# EAGLE library part ATSAMD21E* (library IC_Embedded)
32-bit ARM-Based Microcontrollers Datasheet <http://ww1.microchip.com/downloads/en/devicedoc/40001884a.pdf> Note:For this part User needs to add thermal via in thermal pad in VQFN package while designing a board.
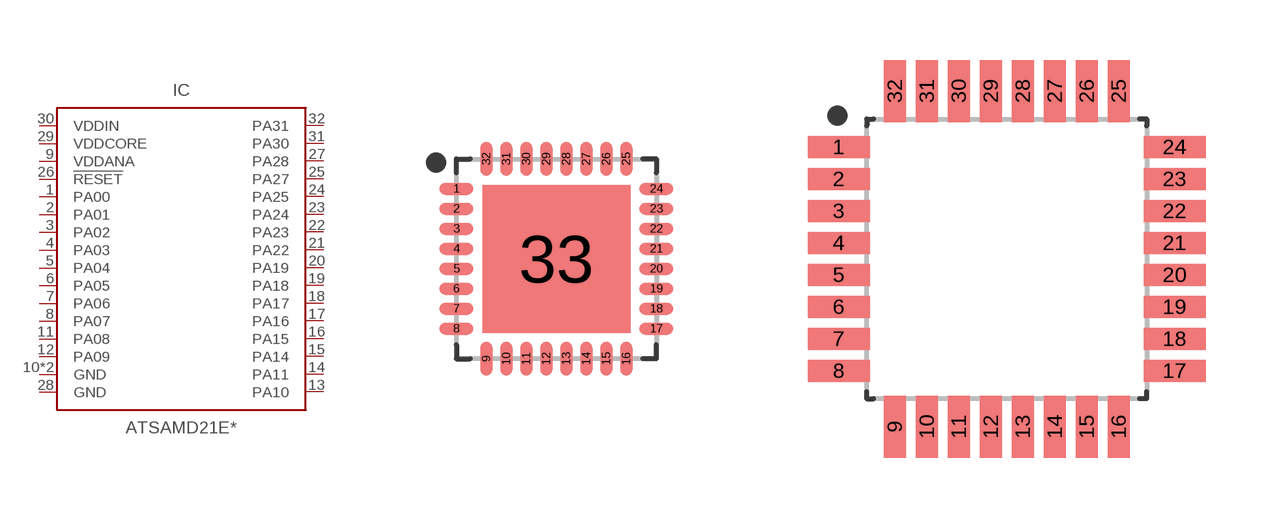
[diagram p32: symbol with the pads of QFN50P500X500X100-33T370; footprints QFN50P500X500X100-33T370, QFP80P900X900X120-32]

Designator prefix IC

## ATSAMD21E_VQFN (CATEGORY: IC_Embedded; CORE: Cortex-M0+ CPU; DESCRIPTION: Microchip's Atmel SMART™ SAM D21 is a series of low-power microcontrollers using the 32-bit ARM® Cortex®-M0+ processor; MANUFACTURER: Microchip Technology; MPN: ATSAMD21E; OPERATING_TEMP: Variable; PACKAGE: VQFN-32; PART_STATUS: Active; ROHS_COMPLIANT: COMPLIANT; SERIES: SAM D21E; SUB-CATEGORY: Microcontroller; TYPE: 32 bit Microcontroller; VALUE: ATSAMD21E)  [QFN50P500X500X100-33T370]
1  PA00  out
2  PA01  out
3  PA02
4  PA03
5  PA04
6  PA05
7  PA06
8  PA07
9  VDDANA  pwr
10  GND  pwr
11  PA08
12  PA09
13  PA10
14  PA11
15  PA14  out
16  PA15  out
17  PA16
18  PA17
19  PA18
20  PA19
21  PA22
22  PA23
23  PA24
24  PA25
25  PA27
26  !RESET  in
27  PA28
28  GND  pwr
29  VDDCORE  pwr
30  VDDIN  pwr
31  PA30
32  PA31
33  GND  pwr

## ATSAMD21E_TQFP (CATEGORY: IC_Embedded; CORE: ARM Cortex M0+; DESCRIPTION: Microchip's Atmel SMART™ SAM D21 is a series of low-power microcontrollers using the 32-bit ARM® Cortex®-M0+ processor; MANUFACTURER: Microchip Technology; MPN: ATSAMD21E; OPERATING_TEMP: variable; PACKAGE: TQFP-32; PART_STATUS: Active; ROHS_COMPLIANT: COMPLIANT; SERIES: SAM D21E; SUB-CATEGORY: Microcontroller; TYPE: 32 bit Microcontroller; VALUE: ATSAMD21E)  [QFP80P900X900X120-32]
1  PA00  out
2  PA01  out
3  PA02
4  PA03
5  PA04
6  PA05
7  PA06
8  PA07
9  VDDANA  pwr
10  GND  pwr
11  PA08
12  PA09
13  PA10
14  PA11
15  PA14  out
16  PA15  out
17  PA16
18  PA17
19  PA18
20  PA19
21  PA22
22  PA23
23  PA24
24  PA25
25  PA27
26  !RESET  in
27  PA28
28  GND  pwr
29  VDDCORE  pwr
30  VDDIN  pwr
31  PA30
32  PA31

## Footprint QFN50P500X500X100-33T370 (pad centres in mm)
32-QFN, 0.50 mm pitch, 5.00 X 5.00 X 1.00 mm body, 3.70 X 3.70 mm thermal pad 32-pin QFN package with 0.50 mm pitch with body size 5.00 X 5.00 X 1.00 mm and thermal pad size 3.70 X 3.70 mm
smd 0.85 x 0.3: 1 -2.5,1.75; 2 -2.5,1.25; 3 -2.5,0.75; 4 -2.5,0.25; 5 -2.5,-0.25; 6 -2.5,-0.75; 7 -2.5,-1.25; 8 -2.5,-1.75; 17 2.5,-1.75; 18 2.5,-1.25; 19 2.5,-0.75; 20 2.5,-0.25; 21 2.5,0.25; 22 2.5,0.75; 23 2.5,1.25; 24 2.5,1.75
smd 0.3 x 0.85: 9 -1.75,-2.5; 10 -1.25,-2.5; 11 -0.75,-2.5; 12 -0.25,-2.5; 13 0.25,-2.5; 14 0.75,-2.5; 15 1.25,-2.5; 16 1.75,-2.5; 25 1.75,2.5; 26 1.25,2.5; 27 0.75,2.5; 28 0.25,2.5; 29 -0.25,2.5; 30 -0.75,2.5; 31 -1.25,2.5; 32 -1.75,2.5
smd 3.7 x 3.7: 33 0,0

## Footprint QFP80P900X900X120-32 (pad centres in mm)
32-QFP, 0.80 mm pitch, 9.00 mm span, 7.00 X 7.00 X 1.20 mm body 32-pin QFP package with 0.80 mm pitch, 9.00 mm lead span1 X 9.00 mm lead span2 with body size 7.00 X 7.00 X 1.20 mm
smd 1.55 x 0.55: 1 -4.2,2.8; 2 -4.2,2; 3 -4.2,1.2; 4 -4.2,0.4; 5 -4.2,-0.4; 6 -4.2,-1.2; 7 -4.2,-2; 8 -4.2,-2.8; 17 4.2,-2.8; 18 4.2,-2; 19 4.2,-1.2; 20 4.2,-0.4; 21 4.2,0.4; 22 4.2,1.2; 23 4.2,2; 24 4.2,2.8
smd 0.55 x 1.55: 9 -2.8,-4.2; 10 -2,-4.2; 11 -1.2,-4.2; 12 -0.4,-4.2; 13 0.4,-4.2; 14 1.2,-4.2; 15 2,-4.2; 16 2.8,-4.2; 25 2.8,4.2; 26 2,4.2; 27 1.2,4.2; 28 0.4,4.2; 29 -0.4,4.2; 30 -1.2,4.2; 31 -2,4.2; 32 -2.8,4.2